# EAGLE library part L293DNE (library SamacSys_Parts)
Quadruple Half-H Drivers L293DNE, 4.5 V to 36 V, 0C to 70C operation temps. Source: Datasheet <http://www.ti.com/lit/ds/symlink/l293d.pdf>
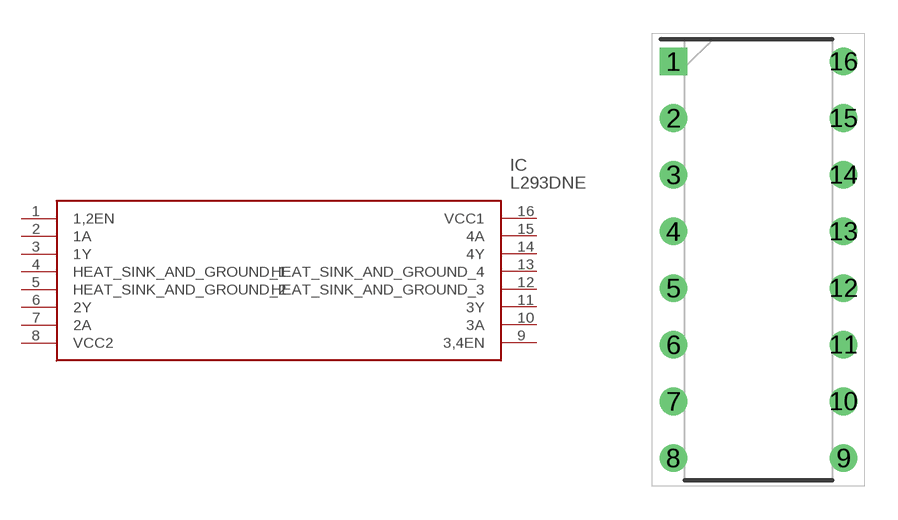
[diagram p0: symbol with the pads of DIP762W53P254L1980H508Q16N; footprint DIP762W53P254L1980H508Q16N]

Designator prefix IC

## L293DNE (Arrow_Part_Number: L293DNE; Arrow_Price-Stock: https://www.arrow.com/en/products/l293dne/texas-instruments; Description: Quadruple Half-H Drivers L293DNE, 4.5 V to 36 V, 0C to 70C operation temps.; Height: 5.08mm; Manufacturer_Name: Texas Instruments; Manufacturer_Part_Number: L293DNE; Mouser_Part_Number: 595-L293DNE; Mouser_Price-Stock: https://www.mouser.co.uk/ProductDetail/Texas-Instruments/L293DNE?qs=ZA235jQDfbp%2Fp7f5ThcsUA%3D%3D)  [DIP762W53P254L1980H508Q16N]
1  1,2EN
2  1A
3  1Y
4  HEAT_SINK_AND_GROUND_1
5  HEAT_SINK_AND_GROUND_2
6  2Y
7  2A
8  VCC2
9  3,4EN
10  3A
11  3Y
12  HEAT_SINK_AND_GROUND_3
13  HEAT_SINK_AND_GROUND_4
14  4Y
15  4A
16  VCC1

## Footprint DIP762W53P254L1980H508Q16N (pad centres in mm)
NE Package (R-PDIP-T16)
drill 0.73 pad 1.13 square: 1 -3.81,8.89
drill 0.73 pad 1.13: 2 -3.81,6.35; 3 -3.81,3.81; 4 -3.81,1.27; 5 -3.81,-1.27; 6 -3.81,-3.81; 7 -3.81,-6.35; 8 -3.81,-8.89; 9 3.81,-8.89; 10 3.81,-6.35; 11 3.81,-3.81; 12 3.81,-1.27; 13 3.81,1.27; 14 3.81,3.81; 15 3.81,6.35; 16 3.81,8.89